# EAGLE library part 6N138 (library epiano)
MOTOROLA OPTO COUPLER
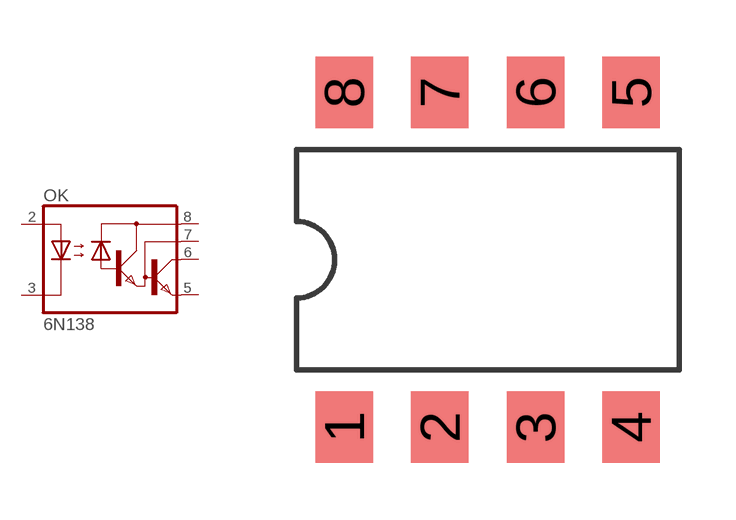
[diagram p0: symbol with the pads of SMD-8; footprint SMD-8]

Designator prefix OK

## 6N138 (MF: VISHAY/TELEFUNKEN; MPN: 6N138; OC_FARNELL: 9860150; OC_NEWARK: 35K5294)  [SMD-8]
2  A  pas
3  C  pas
5  GND  pas
6  VO  pas
7  VB  pas
8  VCC  pas

## Footprint SMD-8 (pad centres in mm)
Dual In Line Package
smd 1.524 x 1.905: 1 -3.81,-4.445; 2 -1.27,-4.445; 3 1.27,-4.445; 4 3.81,-4.445; 5 3.81,4.445; 6 1.27,4.445; 7 -1.27,4.445; 8 -3.81,4.445